# Altium footprint library CN PCIE 36 TH.PcbLib: 1 footprints
Each footprint in its own frame and in the unit in brackets; x right, y up, seen from the top. Pads: shape width x height; smd on the part's side, far side on the other; paste and mask are expansions set on the pad; w line width, h text height; cw(c..) or ccw(c..) is an arc to the next point about the centre after c.
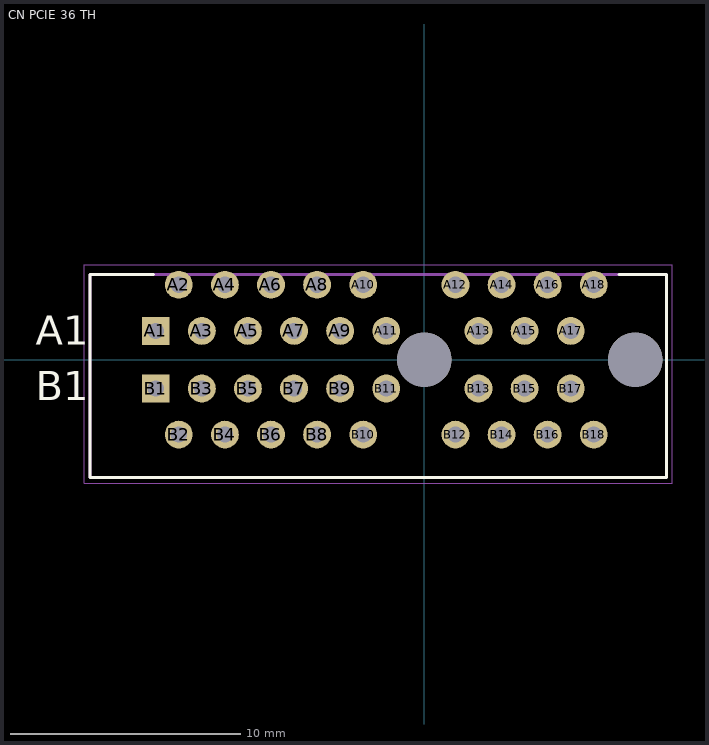
[diagram p0: the footprint, top view; thin cyan lines are the x and y axes]

## CN PCIE 36 TH [mm] "AMPHENOL_10018784-10210TLF"
pads (38):
  rect 1.208x1.208 hole 0.7: A1(-11.65,1.25) B1(-11.65,-1.25)
  round 1.208 hole 0.7: A2(-10.65,3.25) A3(-9.65,1.25) A4(-8.65,3.25) A5(-7.65,1.25) A6(-6.65,3.25) A7(-5.65,1.25) A8(-4.65,3.25) A9(-3.65,1.25) A10(-2.65,3.25) A11(-1.65,1.25) A12(1.35,3.25) A13(2.35,1.25) A14(3.35,3.25) A15(4.35,1.25) A16(5.35,3.25) A17(6.35,1.25) A18(7.35,3.25) B2(-10.65,-3.25) B3(-9.65,-1.25) B4(-8.65,-3.25) B5(-7.65,-1.25) B6(-6.65,-3.25) B7(-5.65,-1.25) B8(-4.65,-3.25) B9(-3.65,-1.25) B10(-2.65,-3.25) B11(-1.65,-1.25) B12(1.35,-3.25) B13(2.35,-1.25) B14(3.35,-3.25) B15(4.35,-1.25) B16(5.35,-3.25) B17(6.35,-1.25) B18(7.35,-3.25)
  round 2.35 hole 2.35 unplated: ""(0,0) ""(9.15,0)
Top Overlay:
  lines w0.127: -11.75,3.7 -14.5,3.7 -14.5,-5.1 10.5,-5.1 10.5,3.7 8.45,3.7
  text "A1" at -16.85,0.65 h1.27
  text "B1" at -16.85,-1.75 h1.27
Mechanical 13:
  lines w0.127: -14.5,-5.1 10.5,-5.1 10.5,3.7 -14.5,3.7 -14.5,-5.1
  text "A1" at -16.85,0.65 h1.27
  text "B1" at -16.85,-1.75 h1.27
Mechanical 15:
  lines w0.05: -14.75,-5.35 10.75,-5.35 10.75,4.11 -14.75,4.11 -14.75,-5.35
3D body "10018784-10210TLF--3DModel-STEP-56544.STEP": height 11, standoff -4.4, extent -14.6,-5.1 10.4,3.7